# EAGLE library part 1986ВЕ1Т (library mcu)
АЕЯР.431280.860 ТУ 1986ВЕ1Т - это 32-разрядный микроконтроллер на ядре Cortex-M1 для авиаприменений с тактовой частотой до 144 МГц. Содержит 128 Кбайт Flash памяти программ и 48 Кбайт ОЗУ. Производитель: АО "ПКК "Миландр", г. Москва, Зеленоград. Технические условия: АЕЯР.431280.860 ТУ
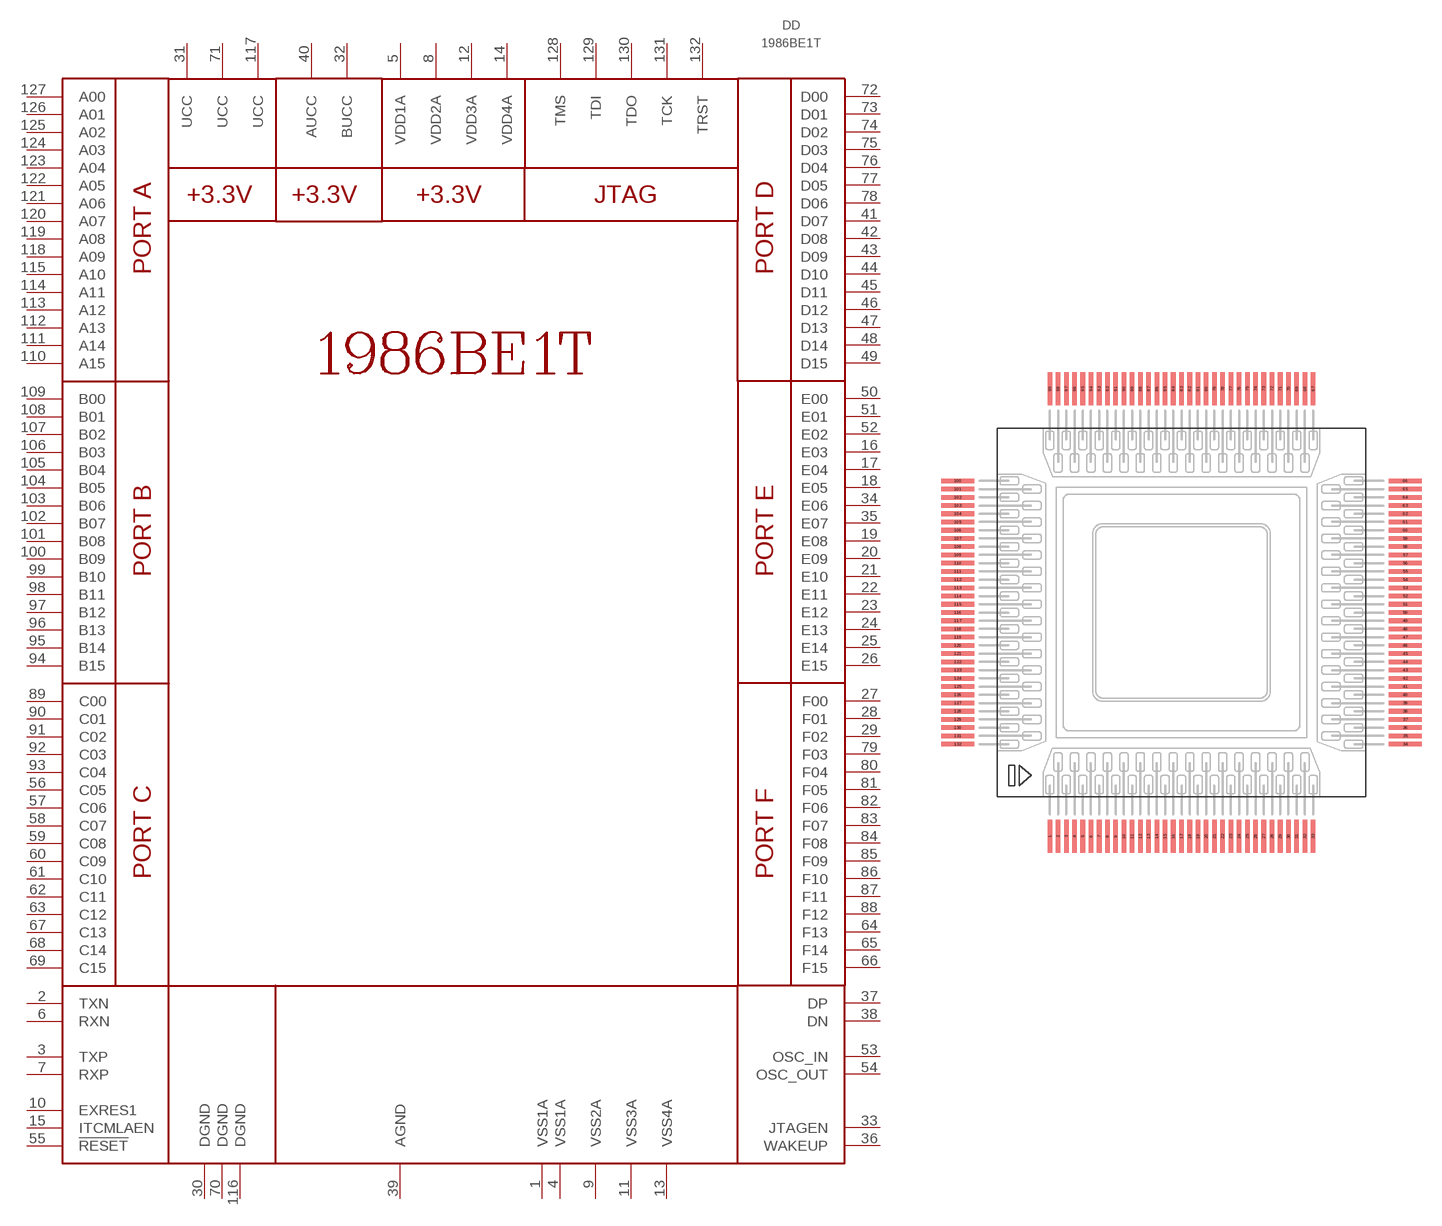
[diagram p1: symbol with the pads of 4229.132-3; footprint 4229.132-3]

Designator prefix DD

## 1986ВЕ1Т  [4229.132-3]
1  VSS1A
2  TXN
3  TXP
4  VSS1A
5  VDD1A
6  RXN
7  RXP
8  VDD2A
9  VSS2A
10  EXRES1
11  VSS3A
12  VDD3A
13  VSS4A
14  VDD4A
15  ITCMLAEN
16  E03
17  E04
18  E05
19  E08
20  E09
21  E10
22  E11
23  E12
24  E13
25  E14
26  E15
27  F00
28  F01
29  F02
30  DGND  pwr
31  UCC  pwr
32  BUCC  pwr
33  JTAGEN
34  E06
35  E07
36  WAKEUP
37  DP
38  DN
39  AGND  pwr
40  AUCC  pwr
41  D07
42  D08
43  D09
44  D10
45  D11
46  D12
47  D13
48  D14
49  D15
50  E00
51  E01
52  E02
53  OSC_IN
54  OSC_OUT
55  !RESET
56  C05
57  C06
58  C07
59  C08
60  C09
61  C10
62  C11
63  C12
64  F13
65  F14
66  F15
67  C13
68  C14
69  C15
70  DGND  pwr
71  UCC  pwr
72  D00
73  D01
74  D02
75  D03
76  D04
77  D05
78  D06
79  F03
80  F04
81  F05
82  F06
83  F07
84  F08
85  F09
86  F10
87  F11
88  F12
89  C00
90  C01
91  C02
92  C03
93  C04
94  B15
95  B14
96  B13
97  B12
98  B11
99  B10
100  B09
101  B08
102  B07
103  B06
104  B05
105  B04
106  B03
107  B02
108  B01
109  B00
110  A15
111  A14
112  A13
113  A12
114  A11
115  A10
116  DGND  pwr
117  UCC  pwr
118  A09
119  A08
120  A07
121  A06
122  A05
123  A04
124  A03
125  A02
126  A01
127  A00
128  TMS
129  TDI
130  TDO
131  TCK
132  TRST

## Footprint 4229.132-3 (pad centres in mm)
smd 0.35 x 2.5: 1 -10,-17; 2 -9.375,-17; 3 -8.75,-17; 4 -8.125,-17; 5 -7.5,-17; 6 -6.875,-17; 7 -6.25,-17; 8 -5.625,-17; 9 -5,-17; 10 -4.375,-17; 11 -3.75,-17; 12 -3.125,-17; 13 -2.5,-17; 14 -1.875,-17; 15 -1.25,-17; 16 -0.625,-17; 17 0,-17; 18 0.625,-17; 19 1.25,-17; 20 1.875,-17; 21 2.5,-17; 22 3.125,-17; 23 3.75,-17; 24 4.375,-17; 25 5,-17; 26 5.625,-17; 27 6.25,-17; 28 6.875,-17; 29 7.5,-17; 30 8.125,-17; 31 8.75,-17; 32 9.375,-17; 33 10,-17; 67 10,17; 68 9.375,17; 69 8.75,17; 70 8.125,17; 71 7.5,17; 72 6.875,17; 73 6.25,17; 74 5.625,17; 75 5,17; 76 4.375,17; 77 3.75,17; 78 3.125,17; 79 2.5,17; 80 1.875,17; 81 1.25,17; 82 0.625,17; 83 0,17; 84 -0.625,17; 85 -1.25,17; 86 -1.875,17; 87 -2.5,17; 88 -3.125,17; 89 -3.75,17; 90 -4.375,17; 91 -5,17; 92 -5.625,17; 93 -6.25,17; 94 -6.875,17; 95 -7.5,17; 96 -8.125,17; 97 -8.75,17; 98 -9.375,17; 99 -10,17
smd 2.5 x 0.35: 34 17,-10; 35 17,-9.375; 36 17,-8.75; 37 17,-8.125; 38 17,-7.5; 39 17,-6.875; 40 17,-6.25; 41 17,-5.625; 42 17,-5; 43 17,-4.375; 44 17,-3.75; 45 17,-3.125; 46 17,-2.5; 47 17,-1.875; 48 17,-1.25; 49 17,-0.625; 50 17,0; 51 17,0.625; 52 17,1.25; 53 17,1.875; 54 17,2.5; 55 17,3.125; 56 17,3.75; 57 17,4.375; 58 17,5; 59 17,5.625; 60 17,6.25; 61 17,6.875; 62 17,7.5; 63 17,8.125; 64 17,8.75; 65 17,9.375; 66 17,10; 100 -17,10; 101 -17,9.375; 102 -17,8.75; 103 -17,8.125; 104 -17,7.5; 105 -17,6.875; 106 -17,6.25; 107 -17,5.625; 108 -17,5; 109 -17,4.375; 110 -17,3.75; 111 -17,3.125; 112 -17,2.5; 113 -17,1.875; 114 -17,1.25; 115 -17,0.625; 116 -17,0; 117 -17,-0.625; 118 -17,-1.25; 119 -17,-1.875; 120 -17,-2.5; 121 -17,-3.125; 122 -17,-3.75; 123 -17,-4.375; 124 -17,-5; 125 -17,-5.625; 126 -17,-6.25; 127 -17,-6.875; 128 -17,-7.5; 129 -17,-8.125; 130 -17,-8.75; 131 -17,-9.375; 132 -17,-10